# Altium footprint library 662008230822.PcbLib: 1 footprints
Each footprint in its own frame and in the unit in brackets; x right, y up, seen from the top. Pads: shape width x height; smd on the part's side, far side on the other; paste and mask are expansions set on the pad; w line width, h text height; cw(c..) or ccw(c..) is an arc to the next point about the centre after c.
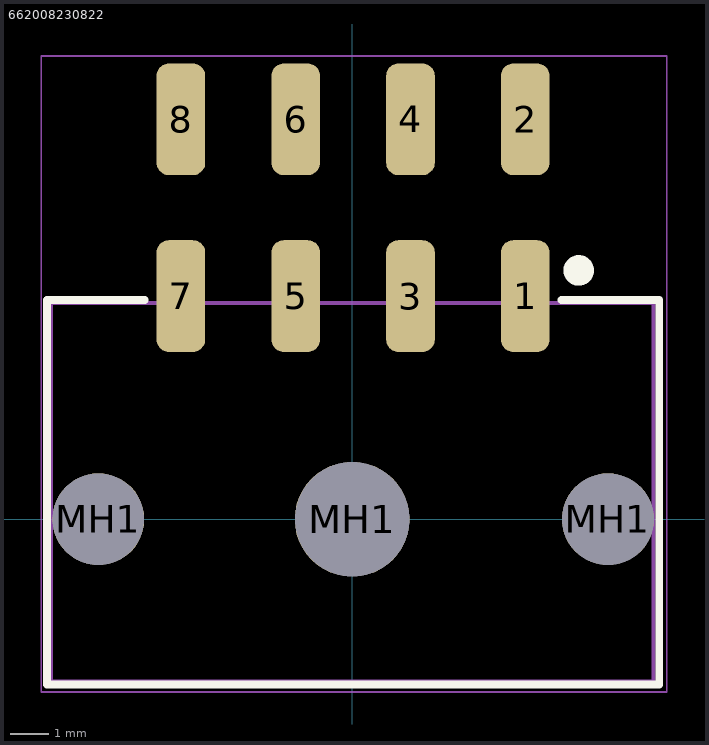
[diagram p0: the footprint, top view; thin cyan lines are the x and y axes]

## 662008230822 [mm]
pads (11):
  rrect50% 1.27x2.92 smd: 1(4.524,5.834) 2(4.524,10.454) 3(1.524,5.834) 4(1.524,10.454) 5(-1.476,5.834) 6(-1.476,10.454) 7(-4.476,5.834) 8(-4.476,10.454)
  round 2.4 hole 2.4 unplated mask+0: MH1(-6.636,0) MH1(6.684,0)
  round 3 hole 3 unplated mask+0: MH1(0,0)
Top Overlay:
  circle w0.4: c5.924,6.504 r0.2
  lines w0.2: -5.426,5.729 -7.976,5.729 -7.976,-4.321 8.024,-4.321 8.024,5.729 5.474,5.729
Top Assembly:
  lines w0.1: -7.874,-4.246 7.874,-4.246 7.874,5.654 -7.874,5.654 -7.874,-4.246
Top Courtyard:
  lines w0.05: -0.5,0.354 0.5,0.354 ; 0,-0.146 0,0.854 ; -8.128,-4.521 8.224,-4.521 8.224,12.114 -8.128,12.114 -8.128,-4.521
3D body "662008230822_Download_STP_662008230822_rev1.stp": height 8.79, standoff -3.07, extent -7.85,-4.596 7.85,11.304